# Altium schematic symbol library TXB0108PWR.SCHLIB: 1 symbol
Pins are listed as number, name and electrical type; pins without a type are passive.

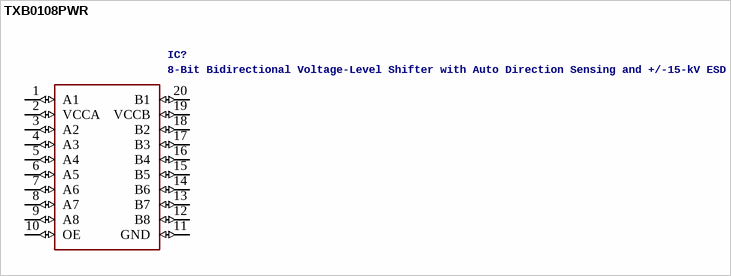
[diagram p0: symbol TXB0108PWR]

## TXB0108PWR
designator IC?, comment 8-Bit Bidirectional Voltage-Level Shifter with Auto Direction Sensing and +/-15-kV ESD Protect   Source:  Datasheet
Manufacturer_Name: Texas Instruments; GateName_1: G$1; SymbolName_1: TXB0108PWR; LibraryName: TXB0108PWR; DeviceSetName: TXB0108PWR; Mouser_Part_Number: 595-TXB0108PWR; Mouser_Price-Stock: https://www.mouser.co.uk/ProductDetail/Texas-Instruments/TXB0108PWR/?qs=oFXvjAmG9EgEUWGWzOVFCA%3D%3D; Manufacturer_Part_Number: TXB0108PWR; Description: 8-Bit Bidirectional Voltage-Level Shifter with Auto Direction Sensing and +/-15-kV ESD Protect; Height: 1.2mm
footprint SOP65P640X120-20N
pins: 1 A1 (io), 2 VCCA (io), 3 A2 (io), 4 A3 (io), 5 A4 (io), 6 A5 (io), 7 A6 (io), 8 A7 (io), 9 A8 (io), 10 OE (io), 11 GND (io), 12 B8 (io), 13 B7 (io), 14 B6 (io), 15 B5 (io), 16 B4 (io), 17 B3 (io), 18 B2 (io), 19 VCCB (io), 20 B1 (io)